# EAGLE library part DSPIC33FJ*802GP-28 (library ASL)
dspic33fj*802gp 28pin
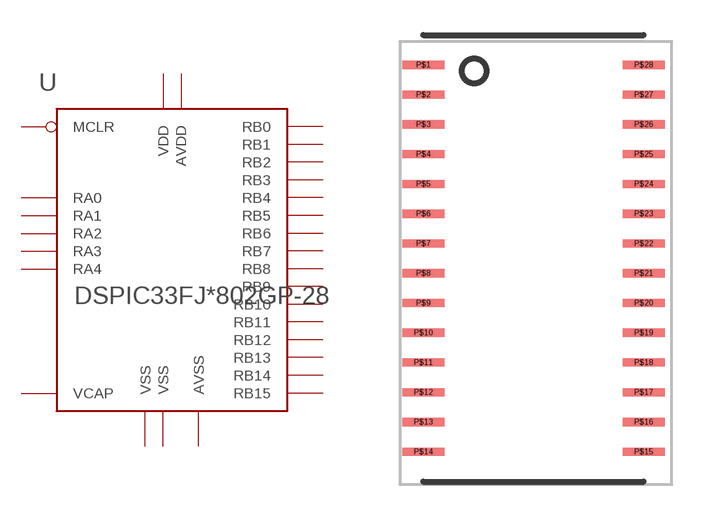
[diagram p21: symbol with the pads of SOIC28-W; footprint SOIC28-W]

Designator prefix U

## DSPIC33FJ802GP-28  [SOIC28-W]
P$1  MCLR
P$2  RA0
P$3  RA1
P$4  RB0
P$5  RB1
P$6  RB2
P$7  RB3
P$8  VSS  pwr
P$9  RA2
P$10  RA3
P$11  RB4
P$12  RA4
P$13  VDD  pwr
P$14  RB5
P$15  RB6
P$16  RB7
P$17  RB8
P$18  RB9
P$19  VSS  pwr
P$20  VCAP  in
P$21  RB10
P$22  RB11
P$23  RB12
P$24  RB13
P$25  RB14
P$26  RB15
P$27  AVSS  in
P$28  AVDD  in

## Footprint SOIC28-W (pad centres in mm)
SOIC 28 PIN WIDE
smd 1.8 x 0.35: P$1 -4.6,8.4; P$2 -4.6,7.13; P$3 -4.6,5.86; P$4 -4.6,4.59; P$5 -4.6,3.32; P$6 -4.6,2.05; P$7 -4.6,0.78; P$8 -4.6,-0.49; P$9 -4.6,-1.76; P$10 -4.6,-3.03; P$11 -4.6,-4.3; P$12 -4.6,-5.57; P$13 -4.6,-6.84; P$14 -4.6,-8.11; P$15 4.8,-8.11; P$16 4.8,-6.84; P$17 4.8,-5.57; P$18 4.8,-4.3; P$19 4.8,-3.03; P$20 4.8,-1.76; P$21 4.8,-0.49; P$22 4.8,0.78; P$23 4.8,2.05; P$24 4.8,3.32; P$25 4.8,4.59; P$26 4.8,5.86; P$27 4.8,7.13; P$28 4.8,8.4